# Altium schematic symbol library Current sensor.SchLib: 3 symbols
Pins are listed as number, name and electrical type; pins without a type are passive.

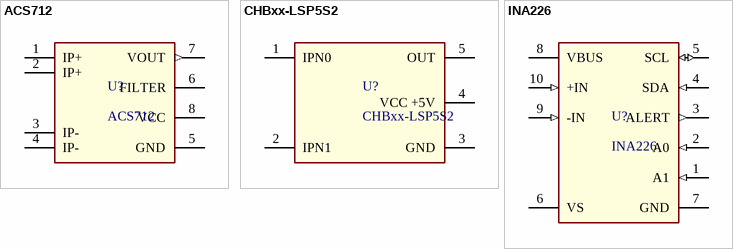
[diagram p0: symbols ACS712 to INA226]

## ACS712
designator U?
Fully Integrated, Hall Effect-Based Linear Current Sensor with 2.1 kVRMS Voltage Isolation and a Low-Resistance Current Conductor /
footprint SOIC8 (STMicroelectronics SO8N) (SOIC, 8-Leads, Body 4,90x3,90mm, Pitch 1,27mm, IPC Medium Density)
pins: 1 IP+, 2 IP+, 3 IP-, 4 IP-, 5 GND (power) "Ground", 6 FILTER "Ground", 7 VOUT (out) "Ground", 8 VCC (power) "Ground"

## CHBxx-LSP5S2
designator U?
Hall Effect Current Sensor
footprint CHBxx-LSP5S2
pins: 1 IPN0, 2 IPN1, 3 GND (power), 4 VCC +5V (power), 5 OUT "2.5V+-2"

## INA226
designator U?
INA226 High-Side or Low-Side Measurement, Bi-Directional Current and Power Monitor with I2C Compatible Interface.; Manufacturer: Texas Instruments; Part number: INA226
footprint VSSOP10
pins: 1 A1 (in), 2 A0 (in), 3 ALERT (out), 4 SDA (in), 5 SCL (io), 6 VS (power) "Power supply, 2.7 V to 5.5 V", 7 GND (power) "Ground", 8 VBUS (power) "Bus voltage input.", 9 -IN (in) "Bus voltage input.", 10 +IN (in) "Bus voltage input."